# EAGLE library part ADR3334 (library QuantumOptics)
ADR3334, Analog Devices, LDO regulator, 1.178V and up, low Iq, shutdown, SO-8 MSOP-8 etc. http://www.analog.com/UploadedFiles/Data_Sheets/123303984ADP3334_b.pdf
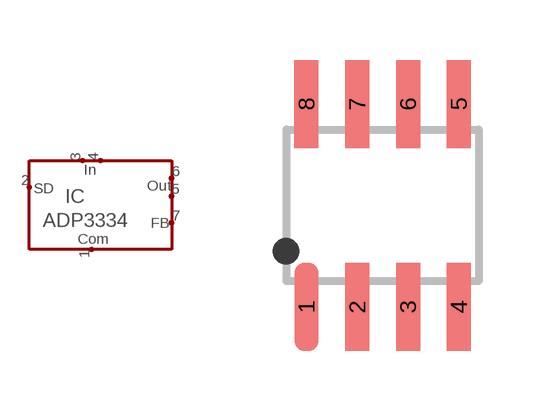
[diagram p44: symbol with the pads of SOIC-8; footprint SOIC-8]

Designator prefix IC

## ADR3334AR  [SOIC-8]
1  COM
2  SD
3  IN1
4  IN2
5  OUT1
6  OUT2
7  FB

## Footprint SOIC-8 (pad centres in mm)
SOIC-8 (a.k.a. SO-8), pads on 0.050" x 0.200" c-c spacing.
smd 0.6 x 2.2: 1 -1.27,-2.54; 2 0,-2.54; 3 1.27,-2.54; 4 2.54,-2.54; 5 2.54,2.54; 6 1.27,2.54; 7 0,2.54; 8 -1.27,2.54